# EAGLE library part 750030428 (library Wurth Electronics Midcom Inc - EAGLE Lib V2-1)
Package Style: EFD20 Mounting: SMD Pins: 10 pins Bobbin: 070-4418 Best pinouts for production vary per application. Please contact Wurth Electronics Midcom, Inc. for assistance with your custom design. Website: Wurth Electronics Midcom <http://www.we-online.com/midcom> Contact us Wurth Electronics Midcom, Inc. 121 Airport Dr. Watertown, SD 57201 Phone: (605) 886-4385 Fax: (605) 886-4486 E-Mail: midcom@we-online.com
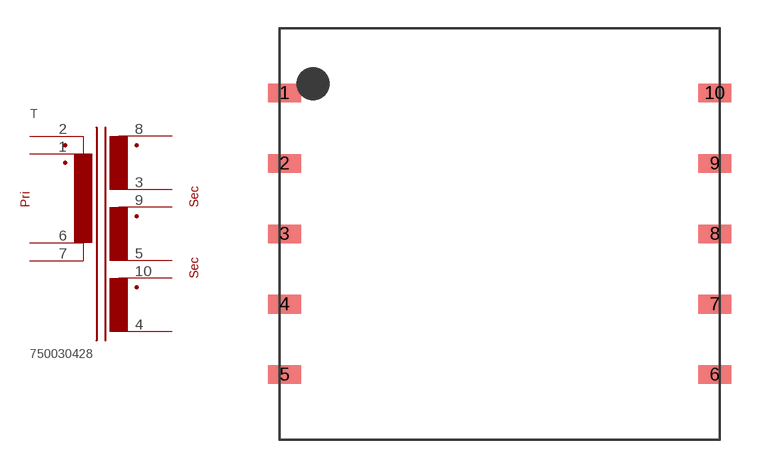
[diagram p380: symbol with the pads of EFD20_SMD_H_10PIN_(4418); footprint EFD20_SMD_H_10PIN_(4418)]

Designator prefix T

## 750030428  [EFD20_SMD_H_10PIN_(4418)]
1  1  pas
2  2  pas
3  3  pas
4  4  pas
5  5  pas
6  6  pas
7  7  pas
8  8  pas
9  9  pas
10  10  pas

## Footprint EFD20_SMD_H_10PIN_(4418) (pad centres in mm)
Package Style: EFD20 Mounting: SMD Pins: 10 Bobbin: 070-4418
smd 1.778 x 0.991: 1 -11.493,7.518; 2 -11.493,3.759; 3 -11.493,0; 4 -11.493,-3.759; 5 -11.493,-7.518; 6 11.493,-7.518; 7 11.493,-3.759; 8 11.493,0; 9 11.493,3.759; 10 11.493,7.518